# EAGLE library part SN65HVD72DRB (library SamacSys_Parts)
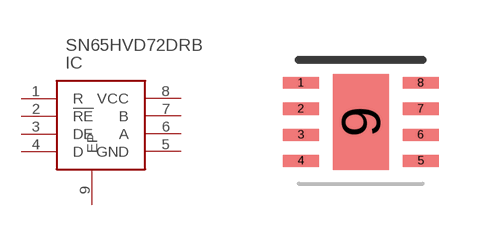
[diagram p26: symbol with the pads of VSON-8; footprint VSON-8]

Designator prefix IC

## SN65HVD72DRB  [VSON-8]
1  R
2  !RE
3  DE
4  D
5  GND  pwr
6  A
7  B
8  VCC  pwr
9  EP  pwr

## Footprint VSON-8 (pad centres in mm)
smd 0.9 x 0.3: 1 -1.5,0.975; 2 -1.5,0.325; 3 -1.5,-0.325; 4 -1.5,-0.975; 5 1.5,-0.975; 6 1.5,-0.325; 7 1.5,0.325; 8 1.5,0.975
smd 1.4 x 2.4: 9 0,0